# EAGLE library part MIRCOT_PWR (library FHD-Boards)
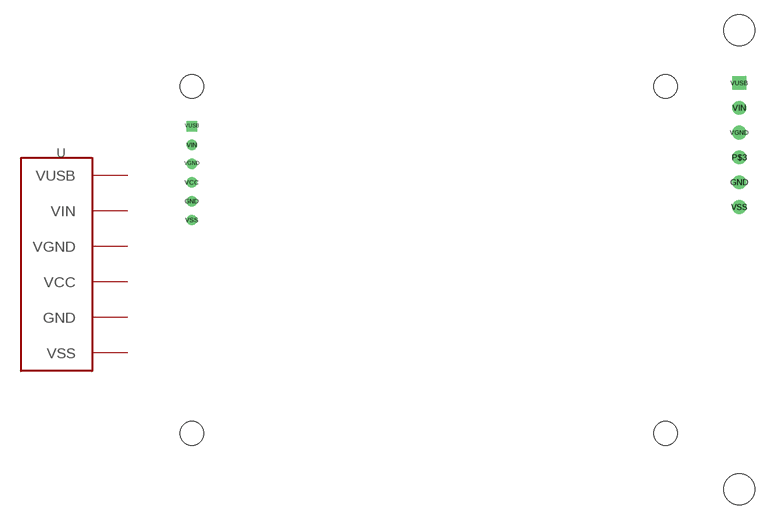
[diagram p0: symbol with the pads of MICROT_POWER; footprints MICROT_POWER, MICROT_POWER_HALF]

Designator prefix -

## MIRCOT_PWR  [MICROT_POWER]
GND  GND  pwr
VCC  VCC  pwr
VGND  VGND  pwr
VIN  VIN  pwr
VSS  VSS  pwr
VUSB  VUSB  pwr

## MIRCOT_PWR_HALF  [MICROT_POWER_HALF]
GND  GND  pwr
P$3  VCC  pwr
VGND  VGND  pwr
VIN  VIN  pwr
VSS  VSS  pwr
VUSB  VUSB  pwr

## Footprint MICROT_POWER (pad centres in mm)
drill 0.9: GND 3.175,35.242; VCC 3.175,37.782; VGND 3.175,40.322; VIN 3.175,42.862; VSS 3.175,32.703
drill 0.9 square: VUSB 3.175,45.403
hole 3.2 at 3.175,3.81
hole 3.2 at 67.31,3.81
hole 3.2 at 67.31,50.8
hole 3.2 at 3.175,50.8

## Footprint MICROT_POWER_HALF (pad centres in mm)
drill 0.9: GND 3.175,35.242; P$3 3.175,37.782; VGND 3.175,40.322; VIN 3.175,42.862; VSS 3.175,32.703
drill 0.9 square: VUSB 3.175,45.403
hole 3.2 at 3.175,3.81
hole 3.2 at 3.175,50.8